# Altium footprint library HOLE_2MM.PcbLib: 1 footprints
Each footprint in its own frame and in the unit in brackets; x right, y up, seen from the top. Pads: shape width x height; smd on the part's side, far side on the other; paste and mask are expansions set on the pad; w line width, h text height; cw(c..) or ccw(c..) is an arc to the next point about the centre after c.
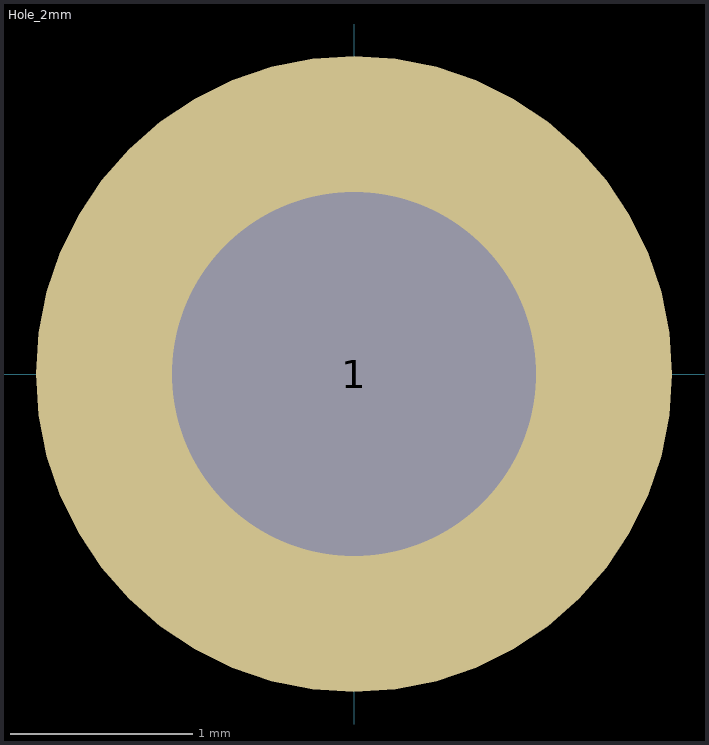
[diagram p0: the footprint, top view; thin cyan lines are the x and y axes]

## Hole_2mm [mm] "Mounting Hole, Non-Plated; 0.50 mm Clearance, 1.00 mm Hole"
pads (1):
  round 3.5 hole 2 unplated paste-0.5 mask+0.25: 1(0,0)
Mechanical 9:
  text "'.Designator'" at -5.08,-0.254 h1